# Altium footprint library Tp_Integrador-Pcblib.PcbLib: 13 footprints
Each footprint in its own frame and in the unit in brackets; x right, y up, seen from the top. Pads: shape width x height; smd on the part's side, far side on the other; paste and mask are expansions set on the pad; w line width, h text height; cw(c..) or ccw(c..) is an arc to the next point about the centre after c.
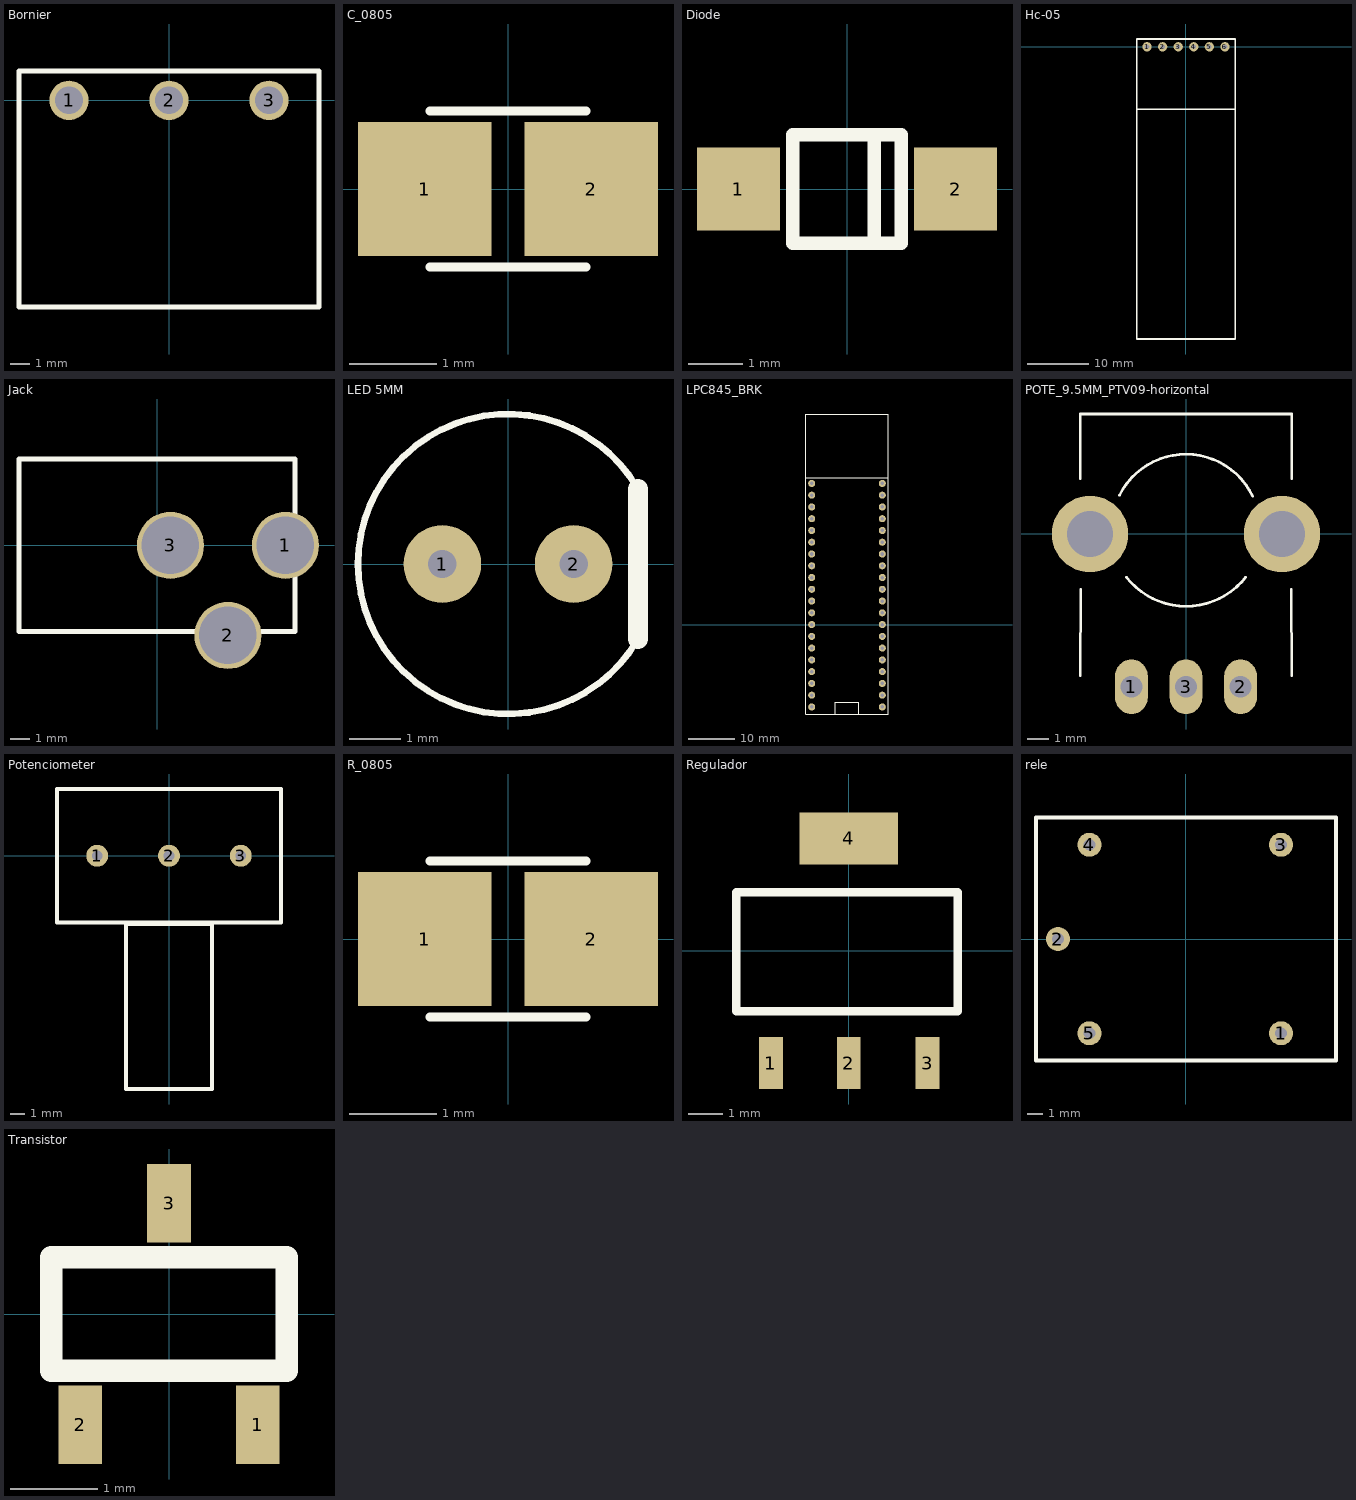
[diagram p0: the footprints below, top view; thin cyan lines are the x and y axes]

## Bornier [mm]
pads (3):
  round 2 hole 1.4: 1(-5.08,0) 2(0,0) 3(5.08,0)
Top Overlay:
  lines w0.254: -7.62,-10.5 7.62,-10.5 7.62,1.5 -7.62,1.5 -7.62,-10.5
3D body "bornera_pcb.stp": height 8.57, standoff -3.5, extent -7.62,-10.16 7.38,1.84

## C_0805 [mil]
pads (2):
  rect 60x60 smd: 1(-37.4,0) 2(37.4,0)
Top Overlay:
  lines w3.94: -35,-35 -15,-35 15,-35 35,-35 ; -35,35 35,35
3D body "Capacitor_0805 SMD.STEP": height 30.79, standoff 0, extent -39.37,-24.61 39.37,24.61

## Diode [mil]
pads (2):
  rect 60x60 smd: 1(-78.74,0) 2(78.74,0)
Top Overlay:
  lines w10: 19.68,-39.37 19.68,39.37 ; 39.37,-39.37 -39.37,-39.37 -39.37,39.37 39.37,39.37 ; 39.37,-39.37 39.37,39.37 ; 39.37,-39.37 39.37,39.37
3D body "SOD123.STEP": height 53.15, standoff 0, extent -72.83,-30.51 72.83,30.51

## Hc-05 [mil]
pads (6):
  round 60 hole 30: 1(-250,0) 2(-150,0) 3(-50,0) 4(50,0) 5(150,0) 6(250,0)
Top Overlay:
  lines w10: -316.93,-400 316.93,-400 ; -316.93,-400 -316.93,-1876.38 316.93,-1876.38 316.93,-400 ; -316.93,-400 316.93,-400 ; -316.93,-400 -316.93,50 316.93,50 316.93,-400
3D body "header_106_ssw-106-03-F-S-RA.stp": height 244.35, standoff -150.15, extent -300,-401.5 320,1.5
3D body "hc05.step": height 232.28, standoff 0, extent -333.86,-1900 300,-222.83

## Jack [mm]
pads (3):
  round 3.5 hole 3: 1(6.7,0) 2(3.7,-4.7) 3(0.7,0)
Top Overlay:
  lines w0.254: -7.2,-4.5 7.2,-4.5 7.2,4.5 -7.2,4.5 -7.2,-4.5
3D body "jack_PJ-002AH.step": height 11.5, standoff -2.99, extent -7.2,-4.32 7.2,5.08

## LED 5MM [mm]
pads (2):
  round 1.5 hole 0.55: 1(-1.27,0) 2(1.27,0)
Top Overlay:
  lines w0.127: 2.511,-1.45 cw(c0,0) 2.511,1.45
  lines w0.381: 2.511,-1.45 2.511,1.45
3D body "5mmLED v2.step": height 21.85, standoff 3, extent -2.5,-2.945 2.938,2.945
3D body: height 12, standoff 0, extent -2.5,-2.497 2.5,2.497

## LPC845_BRK [mil]
pads (40):
  round 60 hole 30: 1(-7700,1200) 2(-7700,1100) 3(-7700,1000) 4(-7700,900) 5(-7700,800) 6(-7700,700) 7(-7700,600) 8(-7700,500) 9(-7700,400) 10(-7700,300) 11(-7700,200) 12(-7700,100) 13(-7700,0) 14(-7700,-100) 15(-7700,-200) 16(-7700,-300) 17(-7700,-400) 18(-7700,-500) 19(-7700,-600) 20(-7700,-700) 21(-7100,-700) 22(-7100,-600) 23(-7100,-500) 24(-7100,-400) 25(-7100,-300) 26(-7100,-200) 27(-7100,-100) 28(-7100,0) 29(-7100,100) 30(-7100,200) 31(-7100,300) 32(-7100,400) 33(-7100,500) 34(-7100,600) 35(-7100,700) 36(-7100,800) 37(-7100,900) 38(-7100,1000) 39(-7100,1100) 40(-7100,1200)
Top Overlay:
  lines w10: -7750,1250 -7050,1250 ; -7750,1250 -7750,-760 -7050,-760 -7050,1250 ; -7750,1250 -7750,1790 -7050,1790 -7050,1250 ; -7500,-760 -7300,-760 -7300,-660 -7500,-660 -7500,-760
3D body "LPC845_BRK_01_tact.step": height 658.46, standoff -83.57, extent -7751,-760 -7050,1809.68

## POTE_9.5MM_PTV09-horizontal [mm]
height 2.5
pads (5):
  oval 1.5x2.5 hole 1: 1(-2.5,-7) 2(2.5,-7) 3(0,-7)
  round 3.5 hole 2.1: ""(-4.4,0) ""(4.4,0)
Top Overlay:
  lines w0.127: -4.85,-6.5 -4.826,-2.54 ; -4.85,2.54 -4.85,5.5 4.85,5.5 4.85,2.54 ; -3.048,1.778 cw(c-0.007,0.257) 3.056,1.732 ; -2.732,-1.983 ccw(c0.001,0.164) 2.733,-1.984 ; 4.826,-2.54 4.85,-6.5
3D body "User Library-PTV09A-4.STEP": height 31.64, standoff -3.63, extent -5.65,-7.25 5.65,5.35

## Potenciometer [mil]
pads (3):
  round 60 hole 30: 1(-196.85,0) 2(0,0) 3(196.85,0)
Top Overlay:
  lines w10: -307.09,-183.07 307.09,-183.07 307.09,183.07 -307.09,183.07 -307.09,-183.07 ; -118.11,-639.76 118.11,-639.76 118.11,-187.01 -118.11,-187.01 -118.11,-639.76
3D body "Potentiometer.STEP": height 814.57, standoff -118.11, extent -344.8,-675.51 304.8,230

## R_0805 [mil]
pads (2):
  rect 60x60 smd: 1(-37.4,0) 2(37.4,0)
Top Overlay:
  lines w3.94: -35,-35 -15,-35 15,-35 35,-35 ; -35,35 35,35
3D body "Resitor_0805_SMD.STEP": height 29.92, standoff 0, extent -45.28,-26.57 45.28,26.57

## Regulador [mil]
pads (4):
  rect 27.56x60 smd: 1(-90,-130) 2(0,-130) 3(91.1,-130)
  rect 114.17x60 smd: 4(0,130)
Top Overlay:
  lines w10: -130,-70 125.91,-70 125.91,67.8 -130,67.8 -130,-70
3D body "SOT223-3.STEP": height 66.93, standoff -0.11, extent -127.95,-137.8 127.95,137.8

## rele [mil]
pads (5):
  round 60 hole 30: 1(238.19,-236.22) 2(-320.87,0) 3(238.19,236.22) 4(-242.13,236.22) 5(-242.13,-236.22)
Top Overlay:
  lines w10: -375.98,-305.12 375.98,-305.12 375.98,305.12 -375.98,305.12 -375.98,-305.12
3D body "SRD-12VDC-SL-C.step": height 622.05, standoff -118.11, extent -387.95,-304.17 367.95,310

## Transistor [mm]
pads (3):
  rect 0.5x0.9 smd: 1(1.016,-1.27) 2(-1.016,-1.27) 3(0,1.27)
Top Overlay:
  lines w0.254: -1.35,-0.65 1.35,-0.65 1.35,0.65 -1.35,0.65 -1.35,-0.65
3D body "SOT23-3.STEP": height 1.3, standoff 0, extent -1.476,-1.5 1.524,1.5